# EAGLE library part IDT5V49EE702 (library clock)
IDT5V49EE702 Clock Synthesizer
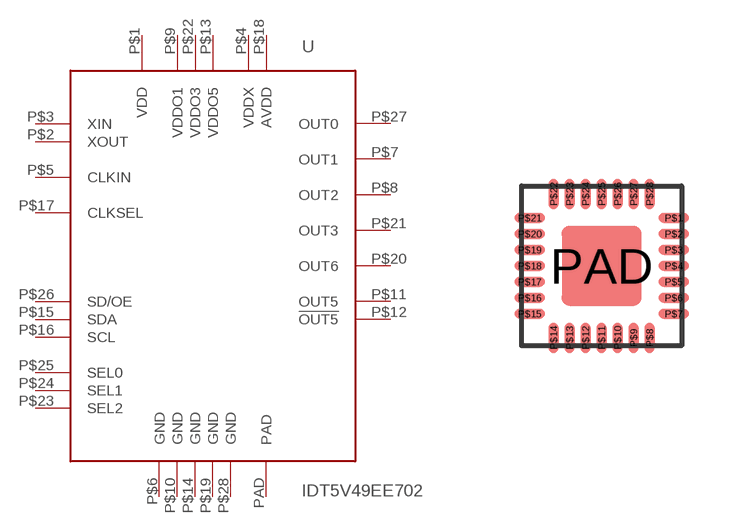
[diagram p2: symbol with the pads of QFN28_4X4MM; footprint QFN28_4X4MM]

Designator prefix -

## IDT5V49EE702  [QFN28_4X4MM]
P$1  VDD
P$2  XOUT
P$3  XIN
P$4  VDDX
P$5  CLKIN
P$6  GND
P$7  OUT1
P$8  OUT2
P$9  VDDO1
P$10  GND
P$11  OUT5
P$12  !OUT5
P$13  VDDO5
P$14  GND
P$15  SDA
P$16  SCL
P$17  CLKSEL
P$18  AVDD
P$19  GND
P$20  OUT6
P$21  OUT3
P$22  VDDO3
P$23  SEL2
P$24  SEL1
P$25  SEL0
P$26  SD/OE
P$27  OUT0
P$28  GND
PAD  PAD

## Footprint QFN28_4X4MM (pad centres in mm)
smd 0.76 x 0.25: P$1 1.8,1.2; P$2 1.8,0.8; P$3 1.8,0.4; P$4 1.8,0; P$5 1.8,-0.4; P$6 1.8,-0.8; P$7 1.8,-1.2; P$15 -1.8,-1.2; P$16 -1.8,-0.8; P$17 -1.8,-0.4; P$18 -1.8,0; P$19 -1.8,0.4; P$20 -1.8,0.8; P$21 -1.8,1.2
smd 0.25 x 0.76: P$8 1.2,-1.8; P$9 0.8,-1.8; P$10 0.4,-1.8; P$11 0,-1.8; P$12 -0.4,-1.8; P$13 -0.8,-1.8; P$14 -1.2,-1.8; P$22 -1.2,1.8; P$23 -0.8,1.8; P$24 -0.4,1.8; P$25 0,1.8; P$26 0.4,1.8; P$27 0.8,1.8; P$28 1.2,1.8
smd 2 x 2: PAD 0,0